# Altium schematic symbol library Schlib1.SchLib: 18 symbols
Pins are listed as number, name and electrical type; pins without a type are passive.

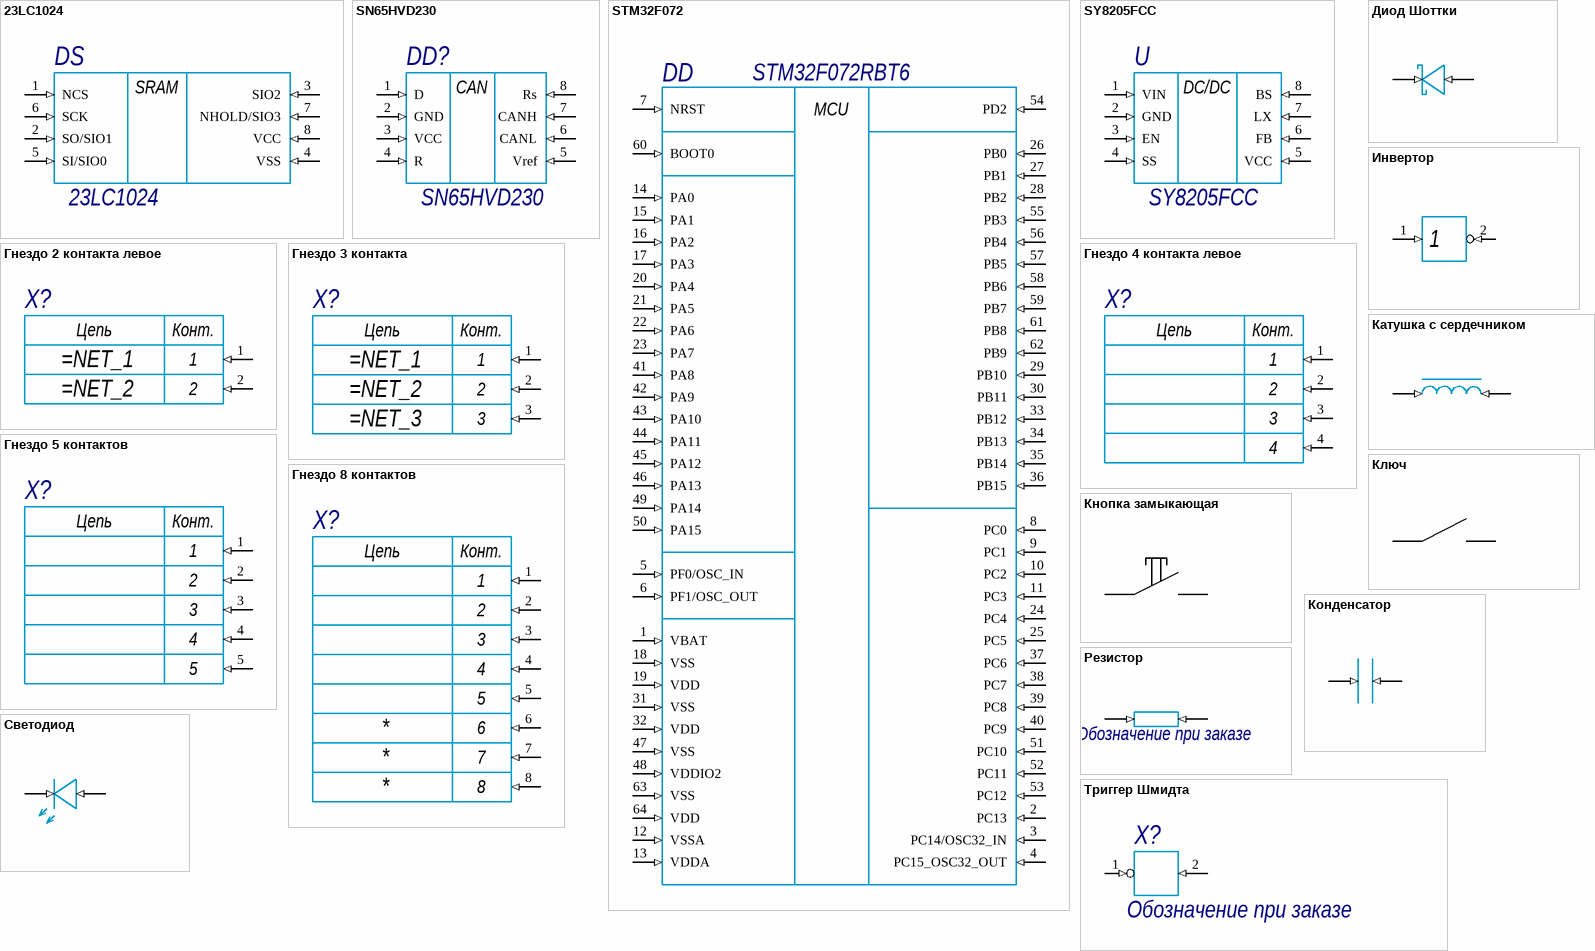
[diagram p0: symbols 23LC1024 to Триггер Шмидта]

## 23LC1024
designator DS
SPI SRAM
footprint 23A1024
pins: 1 NCS (in) "Информационный вход Х6", 2 SO/SIO1 (in) "Информационный вход Х6", 3 SIO2 (in) "Информационный вход Х6", 4 VSS (in) "Информационный вход Х6", 5 SI/SIO0 (in) "Информационный вход Х6", 6 SCK (in) "Информационный вход Х6", 7 NHOLD/SIO3 (in) "Информационный вход Х6", 8 VCC (in) "Информационный вход Х6"
text: SRAM

## SN65HVD230
designator DD?
CAN-трансивер 3.3В
footprint SN65HVD230
pins: 1 D (in) "Информационный вход Х6", 2 GND (in) "Информационный вход Х6", 3 VCC (in) "Информационный вход Х6", 4 R (in) "Информационный вход Х6", 5 Vref (in) "Информационный вход Х6", 6 CANL (in) "Информационный вход Х6", 7 CANH (in) "Информационный вход Х6", 8 Rs (in) "Информационный вход Х6"
text: CAN

## STM32F072
designator DD, comment STM32F072RBT6
Описание свойств компонента
footprint STM32F072 TQFP64
pins: 1 VBAT (in) "Информационный вход Х6", 2 PC13 (in) "Информационный вход Х6", 3 PC14/OSC32_IN (in) "Информационный вход Х6", 4 PC15_OSC32_OUT (in) "Информационный вход Х6", 5 PF0/OSC_IN (in) "Информационный вход Х6", 6 PF1/OSC_OUT (in) "Информационный вход Х6", 7 NRST (in) "Информационный вход Х6", 8 PC0 (in) "Информационный вход Х6", 9 PC1 (in) "Информационный вход Х6", 10 PC2 (in) "Информационный вход Х6", 11 PC3 (in) "Информационный вход Х6", 12 VSSA (in) "Информационный вход Х6", 13 VDDA (in) "Информационный вход Х6", 14 PA0 (in) "Информационный вход Х6", 15 PA1 (in) "Информационный вход Х6", 16 PA2 (in) "Информационный вход Х6", 17 PA3 (in) "Информационный вход Х6", 18 VSS (in) "Информационный вход Х6", 19 VDD (in) "Информационный вход Х6", 20 PA4 (in) "Информационный вход Х6", 21 PA5 (in) "Информационный вход Х6", 22 PA6 (in) "Информационный вход Х6", 23 PA7 (in) "Информационный вход Х6", 24 PC4 (in) "Информационный вход Х6", 25 PC5 (in) "Информационный вход Х6", 26 PB0 (in) "Информационный вход Х6", 27 PB1 (in) "Информационный вход Х6", 28 PB2 (in) "Информационный вход Х6", 29 PB10 (in) "Информационный вход Х6", 30 PB11 (in) "Информационный вход Х6", 31 VSS (in) "Информационный вход Х6", 32 VDD (in) "Информационный вход Х6", 33 PB12 (in) "Информационный вход Х6", 34 PB13 (in) "Информационный вход Х6", 35 PB14 (in) "Информационный вход Х6", 36 PB15 (in) "Информационный вход Х6", 37 PC6 (in) "Информационный вход Х6", 38 PC7 (in) "Информационный вход Х6", 39 PC8 (in) "Информационный вход Х6", 40 PC9 (in) "Информационный вход Х6", 41 PA8 (in) "Информационный вход Х6", 42 PA9 (in) "Информационный вход Х6", 43 PA10 (in) "Информационный вход Х6", 44 PA11 (in) "Информационный вход Х6", 45 PA12 (in) "Информационный вход Х6", 46 PA13 (in) "Информационный вход Х6", 47 VSS (in) "Информационный вход Х6", 48 VDDIO2 (in) "Информационный вход Х6", 49 PA14 (in) "Информационный вход Х6", 50 PA15 (in) "Информационный вход Х6", 51 PC10 (in) "Информационный вход Х6", 52 PC11 (in) "Информационный вход Х6", 53 PC12 (in) "Информационный вход Х6", 54 PD2 (in) "Информационный вход Х6", 55 PB3 (in) "Информационный вход Х6", 56 PB4 (in) "Информационный вход Х6", 57 PB5 (in) "Информационный вход Х6", 58 PB6 (in) "Информационный вход Х6", 59 PB7 (in) "Информационный вход Х6", 60 BOOT0 (in) "Информационный вход Х6", 61 PB8 (in) "Информационный вход Х6", 62 PB9 (in) "Информационный вход Х6", 63 VSS (in) "Информационный вход Х6", 64 VDD (in) "Информационный вход Х6"
text: MCU

## SY8205FCC
designator U
Понижающий преобразователь
footprint SY8205FCC SOP8
pins: 1 VIN (in) "Информационный вход Х6", 2 GND (in) "Информационный вход Х6", 3 EN (in) "Информационный вход Х6", 4 SS (in) "Информационный вход Х6", 5 VCC (in) "Информационный вход Х6", 6 FB (in) "Информационный вход Х6", 7 LX (in) "Информационный вход Х6", 8 BS (in) "Информационный вход Х6"
text: DC/DC

## Гнездо 2 контакта левое
designator X?, comment Обозначение при заказе  (value not drawn)
Описание свойств компонента
pins: 1 (in) "Информационный вход Х6", 2 (in) "Информационный вход Х6"
text: Цепь; Конт.

## Гнездо 3 контакта
designator X?, comment Обозначение при заказе  (value not drawn)
Описание свойств компонента
pins: 1 (in) "Информационный вход Х6", 2 (in) "Информационный вход Х6", 3 (in) "Информационный вход Х6"
text: Цепь; Конт.

## Гнездо 4 контакта левое
designator X?, comment Обозначение при заказе  (value not drawn)
pins: 1 (in) "Информационный вход Х6", 2 (in) "Информационный вход Х6", 3 (in) "Информационный вход Х6", 4 (in) "Информационный вход Х6"
text: Цепь; Конт.

## Гнездо 5 контактов
designator X?, comment Обозначение при заказе  (value not drawn)
pins: 1 (in) "Информационный вход Х6", 2 (in) "Информационный вход Х6", 3 (in) "Информационный вход Х6", 4 (in) "Информационный вход Х6", 5 (in) "Информационный вход Х6"
text: Цепь; Конт.

## Гнездо 8 контактов
designator X?, comment Обозначение при заказе  (value not drawn)
NET_6: *; NET_7: *; NET_8: *
pins: 1 (in) "Информационный вход Х6", 2 (in) "Информационный вход Х6", 3 (in) "Информационный вход Х6", 4 (in) "Информационный вход Х6", 5 (in) "Информационный вход Х6", 6 (in) "Информационный вход Х6", 7 (in) "Информационный вход Х6", 8 (in) "Информационный вход Х6"
text: Цепь; Конт.

## Диод Шоттки
designator VD, comment Обозначение при заказе  (value not drawn)
Описание свойств компонента
pins: 1 (in) "Информационный вход Х6", 2 (in) "Информационный вход Х6"

## Инвертор
designator X?, comment Обозначение при заказе  (value not drawn)
Описание свойств компонента
pins: 1 (in) "Информационный вход Х6", 2 (in) "Информационный вход Х6"

## Катушка с сердечником
designator L, comment Обозначение при заказе  (value not drawn)
Описание свойств компонента
pins: 1 (in) "Информационный вход Х6", 2 (in) "Информационный вход Х6"

## Ключ
designator SA

## Кнопка замыкающая
designator SB

## Конденсатор
designator C, comment Обозначение при заказе  (value not drawn)
Описание свойств компонента
pins: 1 (in) "Информационный вход Х6", 2 (in) "Информационный вход Х6"

## Резистор
designator R?, comment Обозначение при заказе
Описание свойств компонента
pins: 1 (in) "Информационный вход Х6", 2 (in) "Информационный вход Х6"

## Светодиод
designator VD?, comment Обозначение при заказе  (value not drawn)
Описание свойств компонента
pins: 1 (in) "Информационный вход Х6", 2 (in) "Информационный вход Х6"

## Триггер Шмидта
designator X?, comment Обозначение при заказе
Описание свойств компонента
pins: 1 (in) "Информационный вход Х6", 2 (in) "Информационный вход Х6"